# Altium schematic symbol library usblc6_2sc6.SchLib: 1 symbol
Pins are listed as number, name and electrical type; pins without a type are passive.

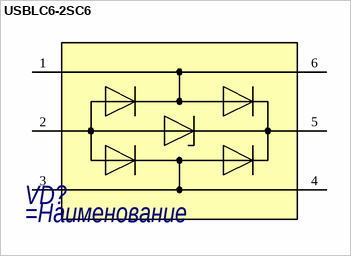
[diagram p0: symbol USBLC6-2SC6]

## USBLC6-2SC6
designator VD?
=Описание
pins: 1, 2, 3, 4, 5, 6